# Altium schematic symbol library HBridgeICs.SchLib: 3 symbols
Pins are listed as number, name and electrical type; pins without a type are passive.

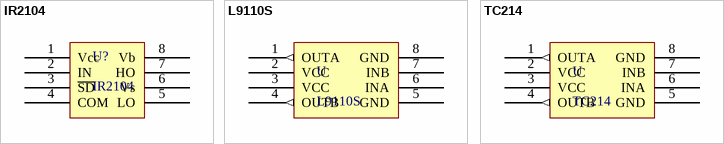
[diagram p0: symbols IR2104 to TC214]

## IR2104
designator U?
footprint LC-SOIC-8_150mil
pins: 1 Vcc, 2 IN, 3 ~{SD}, 4 COM, 5 LO, 6 Vs, 7 HO, 8 Vb

## L9110S
designator U
footprint LC-SOIC-8_150mil
pins: 1 OUTA (out), 2 VCC (power), 3 VCC (power), 4 OUTB (out), 5 GND (power), 6 INA (power), 7 INB (power), 8 GND (power)

## TC214
designator U
footprint LC-SOIC-8_150mil
pins: 1 OUTA (out), 2 VCC (power), 3 VCC (power), 4 OUTB (out), 5 GND (power), 6 INA (power), 7 INB (power), 8 GND (power)